# Altium footprint library Conn_Sullins_SWR25X-NRTC-S06-ST-BA_eec_MFG.PcbLib: 1 footprints
Each footprint in its own frame and in the unit in brackets; x right, y up, seen from the top. Pads: shape width x height; smd on the part's side, far side on the other; paste and mask are expansions set on the pad; w line width, h text height; cw(c..) or ccw(c..) is an arc to the next point about the centre after c.
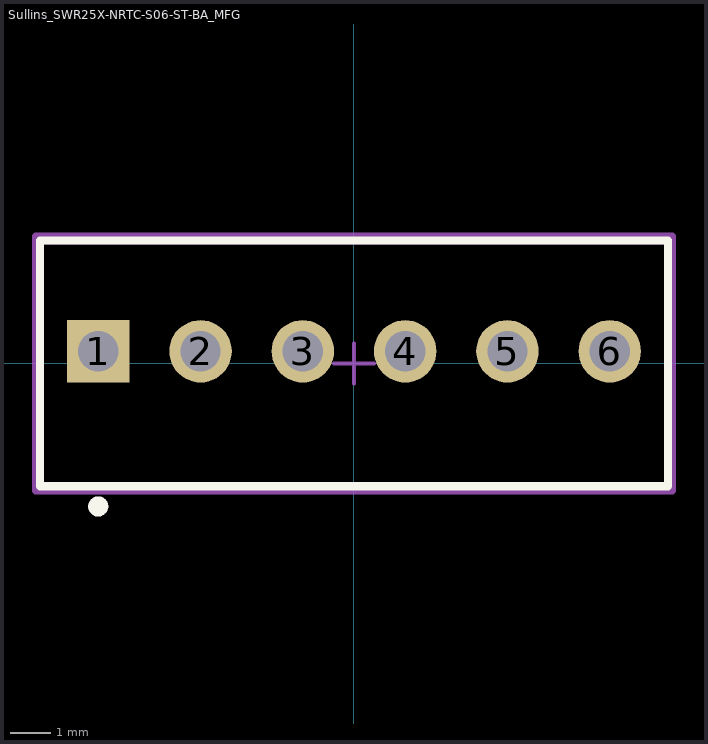
[diagram p0: the footprint, top view; thin cyan lines are the x and y axes]

## Sullins_SWR25X-NRTC-S06-ST-BA_MFG [mm]
pads (6):
  rect 1.55x1.55 hole 1 paste-1000 mask+0: 1(-6.35,0.3)
  round 1.55 hole 1 paste-1000 mask+0: 2(-3.81,0.3) 3(-1.27,0.3) 4(1.27,0.3) 5(3.81,0.3) 6(6.35,0.3)
Top Overlay:
  circle w0.25: c-6.35,-3.55 r0.125
  lines w0.2: -7.8,-3.05 7.8,-3.05 7.8,3.05 -7.8,3.05 -7.8,-3.05
Mechanical 10:
  lines w0.2: -7.9,-3.15 7.9,-3.15 7.9,3.15 -7.9,3.15 -7.9,-3.15
  text ".Designator" at 0,0 h1
Mechanical 12:
  lines w0.2: -7.8,-3.05 7.8,-3.05 7.8,3.05 -7.8,3.05 -7.8,-3.05
Mechanical 15:
  lines w0.1: -0.5,0 0.5,0 ; 0,-0.5 0,0.5
  lines w0.2: -7.9,-3.15 7.9,-3.15 7.9,3.15 -7.9,3.15 -7.9,-3.15
3D body "Conn_Sullins_SWR25X-NRTC-S06-ST-BA_eec.STEP": height 0.25, standoff 0, extent -7.9,-3.15 7.9,3.15